# Altium schematic symbol library 885342206006.SchLib: 1 symbol
Pins are listed as number, name and electrical type; pins without a type are passive.

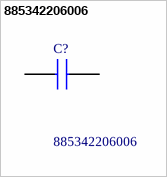
[diagram p0: symbol 885342206006]

## 885342206006
designator C?
Multilayer Ceramic Chip Capacitor WCAP-CSMH Series 0603 10000pF X7R0603103K250DFCT10000; Manufacturer_Name: Wurth Elektronik; Geometry.Height: 0.87mm; Mouser Part Number: 710-885342206006; Mouser Price/Stock: https://www.mouser.co.uk/ProductDetail/Wurth-Elektronik/885342206006?qs=MLItCLRbWswnzjGuf7w1%252BQ%3D%3D; Manufacturer_Part_Number: 885342206006; Datasheet Link: https://katalog.we-online.com/pbs/datasheet/885342206006.pdf
footprint CAPC1608X87N
pins: 1, 2